# Altium schematic symbol library Schlib_Littelfuse.SchLib: 7 symbols
Pins are listed as number, name and electrical type; pins without a type are passive.

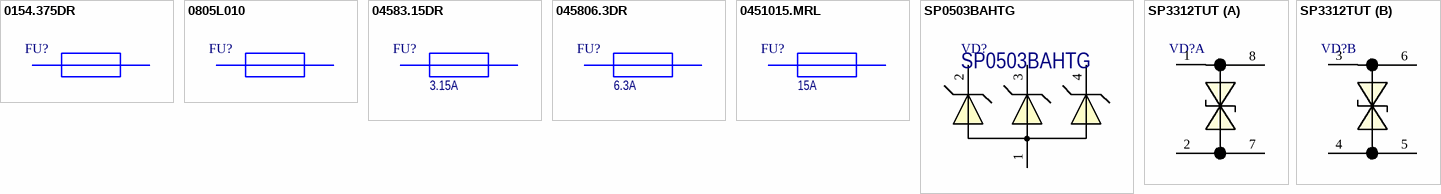
[diagram p0: symbols 0154.375DR to SP3312TUT]

## 0154.375DR
designator FU?, comment 045806.3DR  (value not drawn)
Fuse Holder; Manufacturer: Littelfuse Inc.; Package: 1206; Part Number: 045806.3DR
footprint FUSE_0154_HOLDER (0154.375DR)
pins: 1, 2

## 0805L010
designator FU?  (value not drawn)
Resettable PTC 0.5A; Manufacturer: Littelfuse Inc.; Marking: A; Package: 0805; Part Number: 0805L010
footprint FUSE_0805L
pins: 1, 2

## 04583.15DR
designator FU?  Current: 3.15A  (hidden comment: 04583.15DR)
Fast Fuse 3.15A; Manufacturer: Littelfuse Inc.; Package: 1206; Part Number: 04583.15DR
footprint FUSE1206_V2 (Fuse 1206)
pins: 1, 2

## 045806.3DR
designator FU?  Current: 6.3A  (hidden comment: 045806.3DR)
Fast Fuse 6.3A; Manufacturer: Littelfuse Inc.; Package: 1206; Part Number: 045806.3DR
footprint FUSE1206_V2 (Fuse 1206)
pins: 1, 2

## 0451015.MRL
designator FU?  Current: 15A  (hidden comment: 0451015.MRL)
Fast Fuse 15A; Manufacturer: Littelfuse Inc.; Package: 1206; Part Number: 0451015.MRL
footprint FUSE_0451 (Fuse 1206)
pins: 1, 2

## SP0503BAHTG
designator VD?
TVS Diode Arrays; Manufacturer: Littelfuse Inc.; Package: SOT-143; Part Number: SP0503BAHTG
footprint SOT143 (SOT143, 4-Leads, Body 2.92x2.37mm, Pitch 1.90mm, IPC Medium Density)
pins: 1 C, 2 A1, 3 A2, 4 A3

## SP3312TUT
designator VD?  (value not drawn)
Ethernet ESD Protection; Manufacturer: Littelfuse Inc.; Package: UDFN-08; Part Number: SP3312TUT
footprint UDFN-08 (UDFN-08, 8-Leads, Body 1.85x1.00mm, Pitch 0.50mm, IPC Medium Density)
part A pins: 1, 2, 7, 8
part B pins: 3, 4, 5, 6